# EAGLE library part TPS561201 (library lippa)
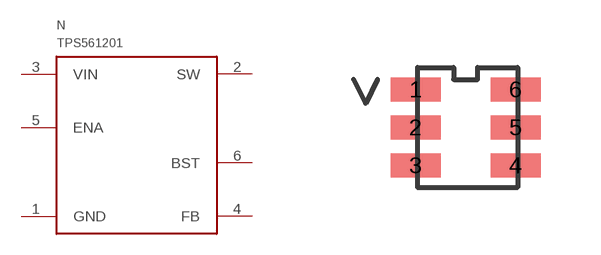
[diagram p4: symbol with the pads of OMAT_IC_2_SOT23-6; footprint OMAT_IC_2_SOT23-6]

Designator prefix N

## TPS561201  [OMAT_IC_2_SOT23-6]
1  GND
2  SW
3  VIN
4  FB
5  ENA
6  BST

## Footprint OMAT_IC_2_SOT23-6 (pad centres in mm)
smd 1.25 x 0.6: 1 -1.25,0.95; 2 -1.25,0; 3 -1.25,-0.95; 4 1.25,-0.95; 5 1.25,0; 6 1.25,0.95